# Altium schematic symbol library ADG333.SchLib: 1 symbol
Pins are listed as number, name and electrical type; pins without a type are passive.

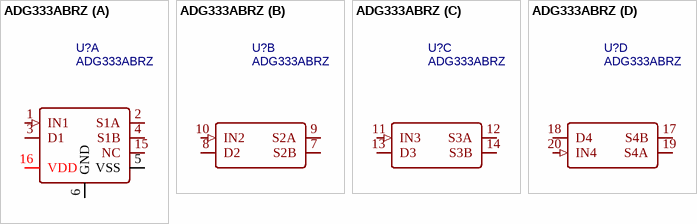
[diagram p0: symbol ADG333ABRZ]

## ADG333ABRZ
designator U?
四通道单刀双掷开关; Manufacturer: ADI(亚德诺); Contributor: LCSC; Supplier: LCSC; Supplier Part: C208031; Manufacturer Part: ADG333ABRZ; JLCPCB Part Class: Extended Part; spicePre: U; spiceSymbolName: ADG333ABRZ
footprint SOIC-20_L12.8-W7.5-P1.27-LS10.3-BL
part A pins: 1 IN1 (in), 2 S1A, 3 D1, 4 S1B, 5 VSS (power), 6 GND (power), 15 NC, 16 VDD (power)
part B pins: 7 S2B, 8 D2, 9 S2A, 10 IN2 (in)
part C pins: 11 IN3 (in), 12 S3A, 13 D3, 14 S3B
part D pins: 17 S4B, 18 D4, 19 S4A, 20 IN4 (in)